# Altium footprint library Revo_element.PcbLib: 178 footprints (part 7 of 12)
Each footprint in its own frame and in the unit in brackets; x right, y up, seen from the top. Pads: shape width x height; smd on the part's side, far side on the other; paste and mask are expansions set on the pad; w line width, h text height; cw(c..) or ccw(c..) is an arc to the next point about the centre after c.
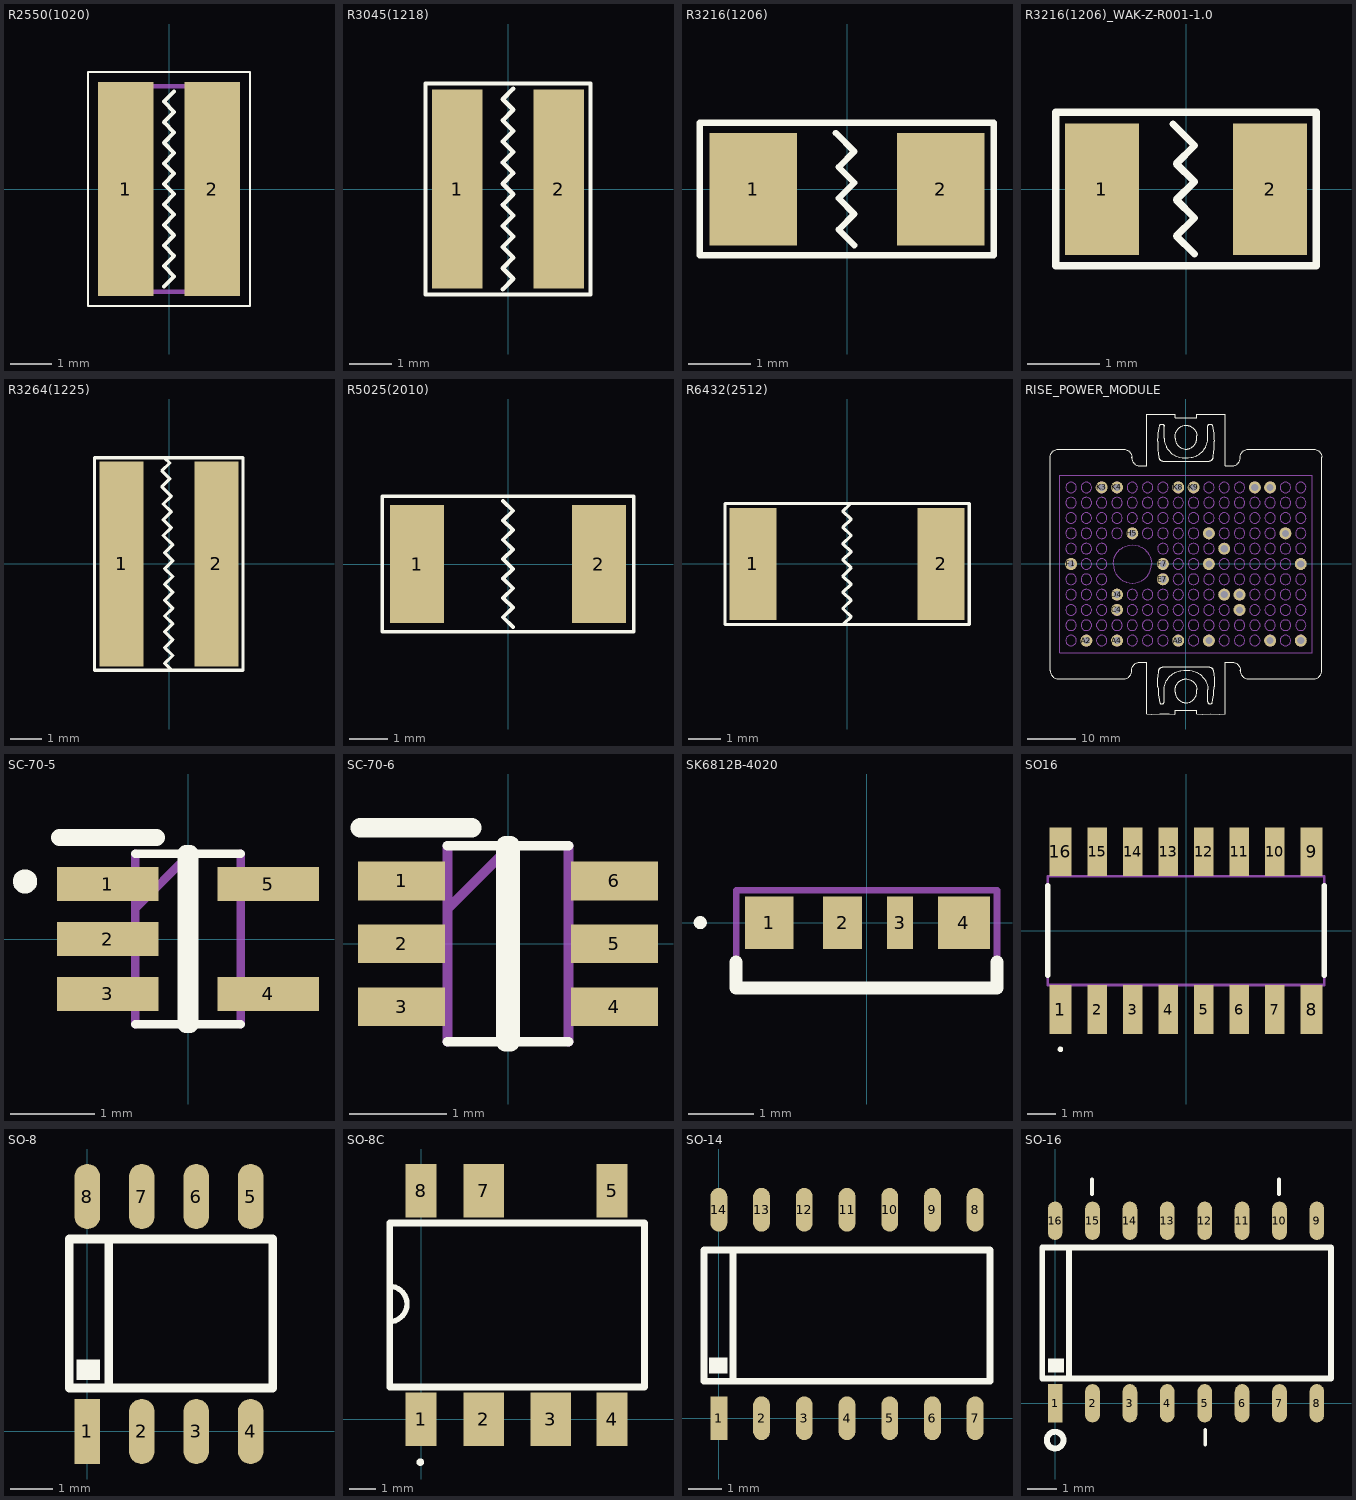
[diagram p6: the footprints below, top view; thin cyan lines are the x and y axes]

## R2550(1020) [mm]
pads (2):
  rect 1.35x5.2 smd: 1(-1.05,0) 2(1.05,0)
Top Overlay:
  lines w0.05: -1.975,-2.85 1.975,-2.85 1.975,2.85 -1.975,2.85 -1.975,-2.85
  lines w0.1: -0.125,-2.375 0.125,-2.125 -0.125,-1.875 0.125,-1.625 -0.125,-1.375 0.125,-1.125 -0.125,-0.875 0.125,-0.625 -0.125,-0.375 0.125,-0.125 -0.125,0.125 0.125,0.375 -0.125,0.625 0.125,0.875 -0.125,1.125 0.125,1.375 -0.125,1.625 0.125,1.875 -0.125,2.125 0.125,2.375
Mechanical 13:
  lines w0.1: -1.25,-2.5 -1.25,2.5 1.25,2.5 1.25,-2.5 -1.25,-2.5
3D body "WG732HTTE220K.stp": height 0.7, standoff 0, extent -1.25,-2.5 1.25,2.5

## R3045(1218) [mm] "Chip Resistor 3045(1218)"
pads (2):
  rect 1.2x4.7 smd: 1(-1.2,0) 2(1.2,0)
Top Overlay:
  lines w0.1: -0.125,-2.375 0.125,-2.125 -0.125,-1.875 0.125,-1.625 -0.125,-1.375 0.125,-1.125 -0.125,-0.875 0.125,-0.625 -0.125,-0.375 0.125,-0.125 -0.125,0.125 0.125,0.375 -0.125,0.625 0.125,0.875 -0.125,1.125 0.125,1.375 -0.125,1.625 0.125,1.875 -0.125,2.125 0.125,2.375 ; -1.95,-2.5 -1.95,2.5 1.95,2.5 1.95,-2.5 -1.95,-2.5
Mechanical 13:
  lines w0.1: -0.125,-0.375 -0.125,-0.375 ; -0.125,0.625 -0.125,0.625 ; 0.125,0.375 0.125,0.375
3D body "RES1218.STEP": height 0.53, standoff -0.03, extent -1.6,-2.305 1.6,2.305

## R3216(1206) [mm] "Chip Resistor 3216(1206)"
pads (2):
  rect 1.4x1.8 smd: 1(-1.5,0) 2(1.5,0)
Top Overlay:
  lines w0.1: -0.18,0.9 0.117,0.603 -0.133,0.353 0.117,0.103 -0.133,-0.147 0.117,-0.397 -0.133,-0.647 0.117,-0.897 ; -2.354,-1.057 2.347,-1.057 2.347,1.062 -2.354,1.062 -2.354,-1.057
3D body "RES1206.stp": height 0.55, standoff 0, extent -1.553,-0.776 1.547,0.776

## R3216(1206)_WAK-Z-R001-1.0 [mm] "Chip Resistor 3216(1206)"
pads (2):
  rect 1.025x1.82 smd: 1(-1.162,0) 2(1.162,0)
Top Overlay:
  lines w0.1: -0.18,0.9 0.117,0.603 -0.133,0.353 0.117,0.103 -0.133,-0.147 0.117,-0.397 -0.133,-0.647 0.117,-0.897 ; -1.8,-1.057 -1.8,1.062 1.8,1.062 1.8,-1.057 -1.8,-1.057
3D body "RES1206.stp": height 0.55, standoff 0, extent -1.553,-0.776 1.547,0.776

## R3264(1225) [mm] "Chip Resistor R3264(1225)"
pads (2):
  rect 1.4x6.5 smd: 1(-1.5,0) 2(1.5,0)
Top Overlay:
  lines w0.1: -0.133,3.353 0.023,3.197 -0.227,2.947 0.023,2.697 -0.227,2.447 0.07,2.15 -0.18,1.9 0.07,1.65 -0.18,1.4 0.07,1.15 -0.18,0.9 0.117,0.603 -0.133,0.353 0.117,0.103 -0.133,-0.147 0.117,-0.397 -0.133,-0.647 0.117,-0.897 -0.133,-1.147 0.117,-1.397 -0.133,-1.647 0.117,-1.897 -0.133,-2.147 0.117,-2.397 -0.133,-2.647 0.117,-2.897 -0.133,-3.147 0.075,-3.355 ; -2.354,-3.363 2.347,-3.363 2.347,3.361 -2.354,3.361 -2.354,-3.363
3D body: height 0.6, standoff 0, extent -1.6,-3.2 1.6,3.2

## R5025(2010) [mm] "Chip Resistor 5025(2010)"
pads (2):
  rect 1.4x3.05 smd: 1(-2.35,0) 2(2.35,0)
Top Overlay:
  lines w0.1: -0.125,1.625 0.125,1.375 -0.125,1.125 0.125,0.875 -0.125,0.625 0.125,0.375 -0.125,0.125 0.125,-0.125 -0.125,-0.375 0.125,-0.625 -0.125,-0.875 0.125,-1.125 -0.125,-1.375 0.125,-1.625 ; -3.25,-1.75 -3.25,1.75 3.25,1.75 3.25,-1.75 -3.25,-1.75
Mechanical 13:
  lines w0.1: -0.125,-0.375 -0.125,-0.375 ; -0.125,0.625 -0.125,0.625
3D body "CMP2010-FX-1002ELF.stp": height 0.7, standoff 0, extent -2.5,-1.25 2.5,1.25

## R6432(2512) [mm] "Chip Resistor 6432(2512)"
pads (2):
  rect 1.45x3.45 smd: 1(-2.9,0) 2(2.9,0)
Top Overlay:
  lines w0.1: -0.099,-1.849 0.125,-1.625 -0.125,-1.375 0.125,-1.125 -0.125,-0.875 0.125,-0.625 -0.125,-0.375 0.125,-0.125 -0.125,0.125 0.125,0.375 -0.125,0.625 0.125,0.875 -0.125,1.125 0.125,1.375 -0.125,1.625 0.097,1.847 ; -3.764,-1.871 -3.764,1.865 3.769,1.865 3.769,-1.871 -3.764,-1.871
Mechanical 13:
  lines w0.1: -0.125,-0.375 -0.125,-0.375 ; -0.125,0.625 -0.125,0.625 ; 0.125,0.375 0.125,0.375
3D body "WSL2512R0100FEA18.stp": height 0.64, standoff 0, extent -3.175,-1.59 3.175,1.59

## RISE_POWER_MODULE [mm]
pads (26):
  round 2.5 hole 1.5: A2(-20.801,-15.998) A4(-14.401,-15.998) A8(-1.601,-15.998) A10(4.799,-15.998) A14(17.599,-15.998) A16(23.999,-15.998) C4(-14.401,-9.599) C12(11.199,-9.599) D4(-14.4,-6.399) D11(8,-6.399) D12(11.2,-6.399) E7(-4.8,-3.2) F1(-24,0) F7(-4.8,0) F10(4.8,0) F16(24,0) G11(8,3.2) H5(-11.2,6.399) H10(4.8,6.399) H15(20.8,6.399) K3(-17.6,15.998) K4(-14.4,15.998) K8(-1.6,15.998) K9(1.6,15.998) K13(14.4,15.998) K14(17.6,15.998)
Top Overlay:
  drawing of 890 lines, arcs and shapes, not listed
Mechanical 1:
  drawing of 248 lines, arcs and shapes, not listed
3D body "PSS_01_01_T_S_4.stp": height 6.47, standoff -2.17, extent 16.117,13.997 19.127,17.985
3D body "PSS_01_01_T_S_4.stp": height 6.47, standoff -2.17, extent -6.802,-4.725 -2.814,-1.715
3D body "PSS_01_01_T_S_4.stp": height 6.47, standoff -2.17, extent -22.28,-18.001 -19.27,-14.014
3D body "PSS_01_01_T_S_4.stp": height 6.47, standoff -2.17, extent -15.88,-18.001 -12.87,-14.014
3D body "PSS_01_01_T_S_4.stp": height 6.47, standoff -2.17, extent -3.08,-18.001 -0.07,-14.014
3D body "PSS_01_01_T_S_4.stp": height 6.47, standoff -2.17, extent 3.32,-18.001 6.33,-14.014
3D body "PSS_01_01_T_S_4.stp": height 6.47, standoff -2.17, extent 22.52,-18.001 25.53,-14.014
3D body "PSS_01_01_T_S_4.stp": height 6.47, standoff -2.17, extent 16.12,-18.001 19.13,-14.014
3D body "PSS_01_01_T_S_4.stp": height 6.47, standoff -2.17, extent 6.52,-8.401 9.53,-4.414
3D body "PSS_01_01_T_S_4.stp": height 6.47, standoff -2.17, extent 9.72,-11.601 12.73,-7.614
3D body "PSS_01_01_T_S_4.stp": height 6.47, standoff -2.17, extent 9.72,-8.401 12.73,-4.414
3D body "PSS_01_01_T_S_4.stp": height 6.47, standoff -2.17, extent -16.404,-11.13 -12.416,-8.12
3D body "PSS_01_01_T_S_4.stp": height 6.47, standoff -2.17, extent -16.404,-7.93 -12.416,-4.92
3D body "PSS_01_01_T_S_4.stp": height 6.47, standoff -2.17, extent 22.468,-1.983 25.478,2.005
3D body "PSS_01_01_T_S_4.stp": height 6.47, standoff -2.17, extent 6.469,1.215 9.479,5.203
3D body "PSS_01_01_T_S_4.stp": height 6.47, standoff -2.17, extent 3.269,-1.985 6.279,2.003
3D body "PSS_01_01_T_S_4.stp": height 6.47, standoff -2.17, extent -6.802,-1.525 -2.814,1.485
3D body "PSS_01_01_T_S_4.stp": height 6.47, standoff -2.17, extent -25.531,-1.985 -22.521,2.003
3D body "PSS_01_01_T_S_4.stp": height 6.47, standoff -2.17, extent -12.731,4.415 -9.721,8.402
3D body "PSS_01_01_T_S_4.stp": height 6.47, standoff -2.17, extent 3.269,4.415 6.279,8.402
3D body "PSS_01_01_T_S_4.stp": height 6.47, standoff -2.17, extent 19.268,4.417 22.278,8.405
3D body "PSS_01_01_T_S_4.stp": height 6.47, standoff -2.17, extent 12.869,14.014 15.879,18.001
3D body "PSS_01_01_T_S_4.stp": height 6.47, standoff -2.17, extent 0.069,14.014 3.079,18.001
3D body "PSS_01_01_T_S_4.stp": height 6.47, standoff -2.17, extent -3.132,14.017 -0.122,18.005
3D body "PSS_01_01_T_S_4.stp": height 6.47, standoff -2.17, extent -15.932,14.017 -12.922,18.005
3D body "PSS_01_01_T_S_4.stp": height 6.47, standoff -2.17, extent -19.131,14.014 -16.121,18.001
3D body "revotech_POWER_module.stp": height -3.3, standoff -18.8, extent -28.361,-31.448 28.339,31.352

## SC-70-5 [mm]
pads (5):
  rect 1.2x0.4 smd: 1(-0.95,0.65) 2(-0.95,0) 3(-0.95,-0.65) 4(0.95,-0.65) 5(0.95,0.65)
Top Overlay:
  lines w0.1: -0.625,-1.012 0.625,-1.012 ; -0.625,1.012 0.625,1.012
  lines w0.143: -2.003,0.682 cw(c-1.931,0.682) -1.859,0.682 cw(c-1.931,0.682) -2.003,0.682
  lines w0.2: -1.525,1.2 -0.375,1.2 ; -0.025,-1.012 -0.025,1.012 0.025,1.012 0.025,-1.012 -0.025,-1.012
Mechanical 13:
  lines w0.1: -0.625,-1.012 -0.625,1.012 ; -0.625,0.362 0.025,1.012 ; 0.625,-1.012 0.625,1.012
3D body "TPS61169DCKR.stp": height 1, standoff 0, extent -1.05,-1 1.05,1

## SC-70-6 [mm]
pads (6):
  rect 0.9x0.4 smd: 1(-1.1,0.65) 2(-1.1,0) 3(-1.1,-0.65) 4(1.1,-0.65) 5(1.1,0) 6(1.1,0.65)
Top Overlay:
  lines w0.1: -0.625,-1.012 0.625,-1.012 ; -0.625,1.012 0.625,1.012
  lines w0.2: -1.525,1.2 -0.375,1.2 ; -0.025,-1.012 0.025,-1.012 0.025,1.012 -0.025,1.012 -0.025,-1.012
Mechanical 13:
  lines w0.1: -0.625,-1.012 -0.625,1.012 ; -0.625,0.362 0.025,1.012 ; 0.625,-1.012 0.625,1.012
3D body "MIC94092YC6-TR.stp": height 1.1, standoff 0, extent -1.05,-1.012 1.05,1.012

## SK6812B-4020 [mm]
pads (4):
  rect 0.75x0.8 smd: 1(-1.492,0)
  rect 0.6x0.8 smd: 2(-0.367,0)
  rect 0.4x0.8 smd: 3(0.513,0)
  rect 0.8x0.8 smd: 4(1.493,0)
Top Overlay:
  lines w0.1: -2.6,0 cw(c-2.55,0) -2.5,0 cw(c-2.55,0) -2.6,0
  lines w0.2: -2,-0.6 -2,-1 2,-1 2,-0.6
Mechanical 13:
  lines w0.1: -2,-1 -2,0.5 2,0.5 2,-1 -2,-1
3D body "4691.stp": height 2.05, standoff 0, extent -2,-1.14 2,0.36

## SO16 [mm]
pads (16):
  rect 0.8x1.75 smd: 1(-4.495,-2.825) 8(4.495,-2.825) 9(4.495,2.825) 16(-4.495,2.825)
  rect 0.7x1.75 smd: 2(-3.175,-2.825) 3(-1.905,-2.825) 4(-0.635,-2.825) 5(0.635,-2.825) 6(1.905,-2.825) 7(3.175,-2.825) 10(3.175,2.825) 11(1.905,2.825) 12(0.635,2.825) 13(-0.635,2.825) 14(-1.905,2.825) 15(-3.175,2.825)
Top Overlay:
  lines w0.1: -4.495,-4.3 cw(c-4.495,-4.25) -4.495,-4.2 cw(c-4.495,-4.25) -4.495,-4.3
  lines w0.2: -4.95,-1.6 -4.95,1.6 ; 4.95,-1.6 4.95,1.6
Mechanical 13:
  lines w0.1: -4.95,-1.95 4.95,-1.95 4.95,1.95 -4.95,1.95 -4.95,-1.95
3D body "74HC594D,118.stp": height 1.56, standoff 0, extent -4.948,-3 4.952,3

## SO-8 [mm]
pads (8):
  rect 0.599x1.52 smd: 1(0,0)
  oval 0.599x1.52 smd: 2(1.27,0) 3(2.54,0) 4(3.81,0) 5(3.81,5.48) 6(2.54,5.48) 7(1.27,5.48) 8(0,5.48)
Top Overlay:
  rectangle: -0.253,1.2 0.3,1.675
  lines w0.203: -0.425,4.45 -0.425,1.012 4.325,1.012 4.325,4.45 ; -0.425,4.487 4.325,4.487 ; 0.5,1.038 0.5,4.475
3D body "User Library-so8.step": height 1.6, standoff -0.07, extent -0.525,-0.248 4.375,5.798

## SO-8C [mil]
pads (7):
  rect 45.98x80 smd: 1(0,0) 4(284.25,0) 5(284.25,340) 8(0,340)
  rect 60x80 smd: 2(92.99,0) 3(192.99,0) 7(92.99,340)
Top Overlay:
  lines w5.63: -4.06,-63.7 ccw(c-1.22,-63.7) 1.61,-63.7 ccw(c-1.22,-63.7) -4.06,-63.7
  lines w7.87: -47.44,145.28 ccw(c-47.44,171.68) -47.24,198.08
  lines w10: -46.5,47.95 332.48,47.95 332.48,292.05 -46.5,292.05 -46.5,47.95
3D body "LNK306GN.stp": height 156.69, standoff 0, extent -45.18,-18.41 331.79,361.71

## SO-14 [mm]
pads (14):
  rect 0.5x1.3 smd: 1(0,0)
  oval 0.5x1.3 smd: 2(1.27,0) 3(2.54,0) 4(3.81,0) 5(5.08,0) 6(6.35,0) 7(7.62,0) 8(7.62,6.2) 9(6.35,6.2) 10(5.08,6.2) 11(3.81,6.2) 12(2.54,6.2) 13(1.27,6.2) 14(0,6.2)
Top Overlay:
  rectangle: -0.29,1.325 0.262,1.8
  lines w0.203: 0.425,1.1 0.425,5 ; -0.437,1.1 -0.437,5 8.063,5 8.063,4.013 8.063,2.063 8.063,1.1 -0.437,1.1
3D body "User Library-so14-2.step": height 1.88, standoff 0.11, extent -0.525,-0.068 8.175,6.069

## SO-16 [mm]
pads (16):
  rect 0.5x1.3 smd: 1(0,0)
  oval 0.5x1.3 smd: 2(1.27,0) 3(2.54,0) 4(3.81,0) 5(5.08,0) 6(6.35,0) 7(7.62,0) 8(8.89,0) 9(8.89,6.2) 10(7.62,6.2) 11(6.35,6.2) 12(5.08,6.2) 13(3.81,6.2) 14(2.54,6.2) 15(1.27,6.2) 16(0,6.2)
Top Overlay:
  circle w0.2: c0,-1.25 r0.283
  rectangle: -0.25,1.05 0.303,1.525
  lines w0.127: 1.25,7.1 1.25,7.6 ; 5.1,-1.4 5.1,-0.9 ; 7.6,7.1 7.6,7.6
  lines w0.203: 0.475,0.85 0.475,5.275 ; -0.437,0.85 -0.437,5.3 9.375,5.3 9.375,0.85 -0.437,0.85
3D body "User Library-so16-1.step": height 1.78, standoff 0.01, extent -0.535,-0.018 9.435,6.119